# Altium schematic symbol library SnapEDAsch.SchLib: 1 symbol
Pins are listed as number, name and electrical type; pins without a type are passive.

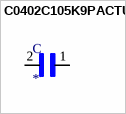
[diagram p0: symbol C0402C105K9PACTU]

## C0402C105K9PACTU
designator C
1ÂµF Â± 10% 6.3V Condensateur cÃ©ramique X5R 0402 _1005 mÃ©trique_; MF: KEMET; MP: C0402C105K9PACTU; Price: None; Availability: Unavailable; Package: 0402 KEMET; SnapEDA_Link: https://www.snapeda.com/parts/C0402C105K9PACTU/KEMET/view-part/795259/?ref=snap; Value: *
footprint CAPC1005X55N
pins: 1, 2